# EAGLE library part AS3400 (library SparkFun-Retired)
Active noise cancellation chip. Stereo in, stereo out, two microphones. Single alkaline cell power. QFN-24 w/exposed pad. Dead Prototype: IC-10703
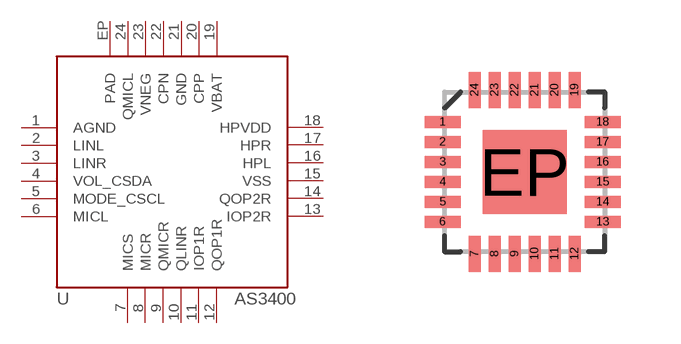
[diagram p55: symbol with the pads of QFN-24_ALT2; footprint QFN-24_ALT2]

Designator prefix U

## AS3400  [QFN-24_ALT2]
1  AGND
2  LINL
3  LINR
4  VOL_CSDA
5  MODE_CSCL
6  MICL
7  MICS
8  MICR
9  QMICR
10  QLINR
11  IOP1R
12  QOP1R
13  IOP2R
14  QOP2R
15  VSS
16  HPL
17  HPR
18  HPVDD
19  VBAT
20  CPP
21  GND
22  CPN
23  VNEG
24  QMICL
EP  PAD

## Footprint QFN-24_ALT2 (pad centres in mm)
24-pin QFN with Exposed Thermal pad Parts that use this package: A6282 Last modified: 8/20/10 ***UNPROVEN***
smd 0.9 x 0.3: 1 -2.05,1.25; 2 -2.05,0.75; 3 -2.05,0.25; 4 -2.05,-0.25; 5 -2.05,-0.75; 6 -2.05,-1.25; 13 1.95,-1.25; 14 1.95,-0.75; 15 1.95,-0.25; 16 1.95,0.25; 17 1.95,0.75; 18 1.95,1.25
smd 0.3 x 0.9: 7 -1.25,-2.05; 8 -0.75,-2.05; 9 -0.25,-2.05; 10 0.25,-2.05; 11 0.75,-2.05; 12 1.25,-2.05; 19 1.25,2.05; 20 0.75,2.05; 21 0.25,2.05; 22 -0.25,2.05; 23 -0.75,2.05; 24 -1.25,2.05
smd 2.1 x 2.1: EP 0,0